# EAGLE library part 5220706 (library CON-Hirose-AON)
FFC connector 6pin top 1,0mm slide lock
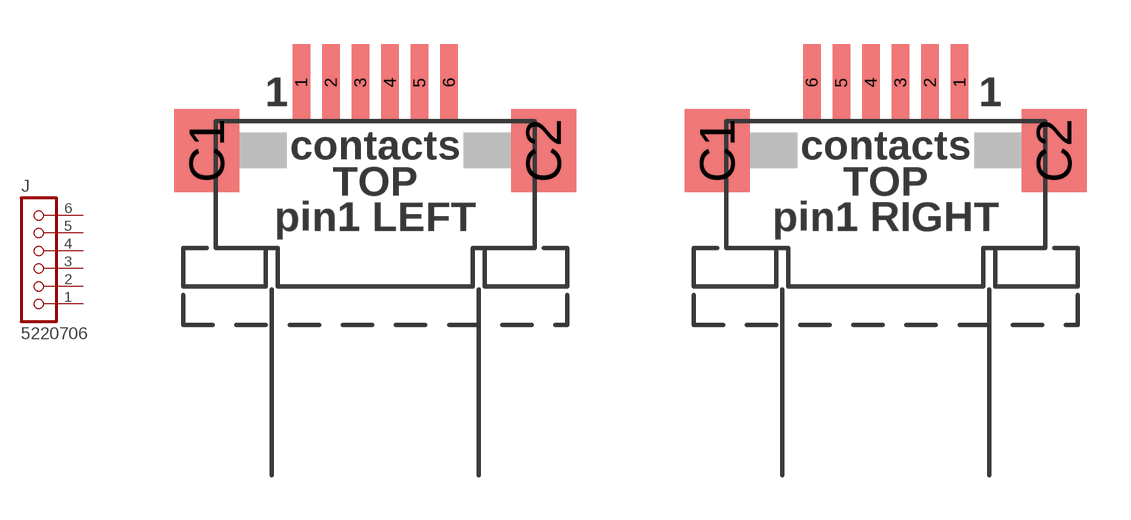
[diagram p10: symbol with the pads of 5220706/1.LEFT; footprints 5220706/1.LEFT, 5220706/1.RIGHT]

Designator prefix J

## 5220706/1.LEFT  [5220706/1.LEFT]
1  1  pas
2  2  pas
3  3  pas
4  4  pas
5  5  pas
6  6  pas

## 5220706/1.RIGHT  [5220706/1.RIGHT]
Pads as for 5220706/1.LEFT

## Footprint 5220706/1.LEFT (pad centres in mm)
6pin 1mm, contacts TOP, pin1 LEFT
smd 0.6 x 2.6: 1 -2.5,3.3; 2 -1.5,3.3; 3 -0.5,3.3; 4 0.5,3.3; 5 1.5,3.3; 6 2.5,3.3
smd 2.2 x 2.8: C1 -5.7,1; C2 5.7,1

## Footprint 5220706/1.RIGHT (pad centres in mm)
6pin 1mm, contacts TOP, pin1 RIGHT
smd 0.6 x 2.6: 1 2.5,3.3; 2 1.5,3.3; 3 0.5,3.3; 4 -0.5,3.3; 5 -1.5,3.3; 6 -2.5,3.3
smd 2.2 x 2.8: C1 -5.7,1; C2 5.7,1